# EAGLE library part ADS1231ID (library ADS1231)
ADC
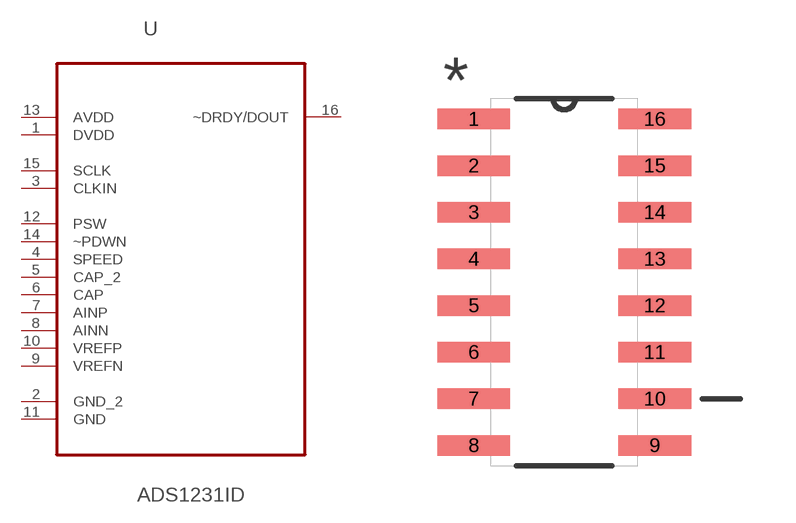
[diagram p0: symbol with the pads of SOIC127P600X175-16N; footprint SOIC127P600X175-16N]

Designator prefix U

## ADS1231ID (MPN: ADS1231ID; OC_FARNELL: 1882261; OC_NEWARK: 27T6158; PACKAGE: SOIC-16; SUPPLIER: Texas Instruments)  [SOIC127P600X175-16N]
1  DVDD  pwr
2  GND_2  pas
3  CLKIN  in
4  SPEED  in
5  CAP_2  in
6  CAP  in
7  AINP  in
8  AINN  in
9  VREFN  in
10  VREFP  in
11  GND  pas
12  PSW  in
13  AVDD  pwr
14  ~PDWN  in
15  SCLK  in
16  ~DRDY/DOUT  out

## Footprint SOIC127P600X175-16N (pad centres in mm)
smd 1.981 x 0.559: 1 -2.464,4.445; 2 -2.464,3.175; 3 -2.464,1.905; 4 -2.464,0.635; 5 -2.464,-0.635; 6 -2.464,-1.905; 7 -2.464,-3.175; 8 -2.464,-4.445; 9 2.464,-4.445; 10 2.464,-3.175; 11 2.464,-1.905; 12 2.464,-0.635; 13 2.464,0.635; 14 2.464,1.905; 15 2.464,3.175; 16 2.464,4.445